# EAGLE library part AUDIO_AMP_BREAKOUT (library audio_amp_breakout)
PAM8403 Audio Amplifier Breakout Board
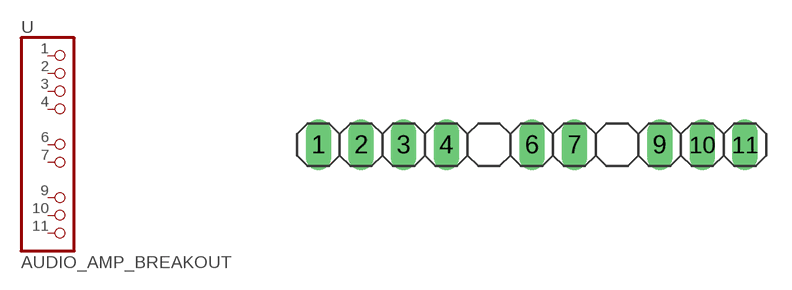
[diagram p0: symbol with the pads of AUDIO_AMP_BREAKOUT; footprint AUDIO_AMP_BREAKOUT]

Designator prefix -

## AUDIO_AMP_BREAKOUT  [AUDIO_AMP_BREAKOUT]
1  GND  pas
2  R_OUT_POS  pas
3  L_OUT_POS  pas
4  GND  pas
6  GND  pas
7  POW_POS  pas
9  L_INPUT  pas
10  GND  pas
11  R_INPUT  pas

## Footprint AUDIO_AMP_BREAKOUT (pad centres in mm)
drill 1.016 long: 1 -12.7,0; 2 -10.16,0; 3 -7.62,0; 4 -5.08,0; 6 0,0; 7 2.54,0; 9 7.62,0; 10 10.16,0; 11 12.7,0